# EAGLE library part REF193GSZ (library Hexabitz)
Voltage Reference Precision 3 Volt 30 mA 8-Pin SOIC N
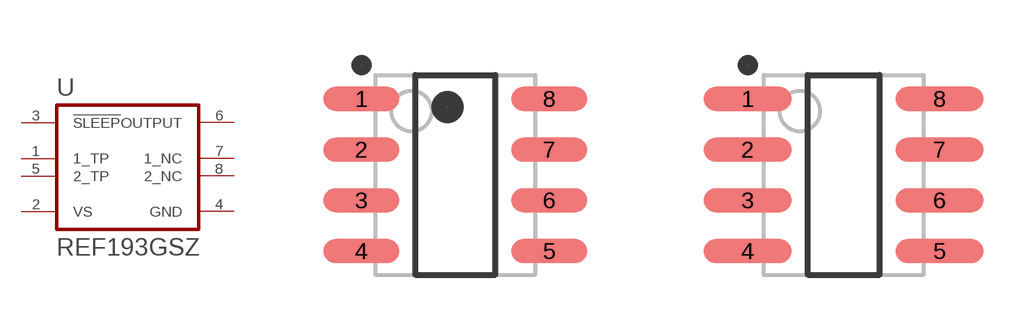
[diagram p29: symbol with the pads of REF193GSZ_0; footprints REF193GSZ_0, REF193GSZ_1]

Designator prefix U

## REF193GSZANALOG_DEVICES_REF193GSZ_0_0 (CIIVA_IDS: 1469357; CODE__JEDEC: MS-012-AA; COMPONENT_LINK_1_DESCRIPTION: Manufacturer URL; COMPONENT_LINK_1_URL: http://www.analog.com/en/index.html; COMPONENT_LINK_3_DESCRIPTION: Package Specification; COMPONENT_LINK_3_URL: http://www.analog.com/static/imported-files/packages/PKG_PDF/SOIC_Narrow%20(R)/R_8.pdf; COMPONENT_LINK_4_DESCRIPTION: URL Link1; COMPONENT_LINK_4_URL: Product URL:http://www.analog.com/en/special-linear-functions/voltage-references/ref193/products/product.html; DATASHEET: http://www.analog.com/static/imported-files/data_sheets/REF19xSeries.pdf; DATASHEET_VERSION: Rev. L; FOOTPRINT_VARIANT_NAME_0: Level C; FOOTPRINT_VARIANT_NAME_1: Level B; FOOTPRINT_VARIANT_NAME_2: Level A; IMPORTED: yes; IMPORTED_FROM: vault; IMPORT_TS: 1521842982; MF: Analog Devices; MOUNTING_TECHNOLOGY: Surface Mount; MPN: REF193GSZ; OPERATING_TEMP_RANGE: -40 to 85 degC; PACKAGE: R-8; PACKAGE_DESCRIPTION: 8-Pin Standard Small Outline Package, Body 4.9 x 3.9 mm, Pitch 1.27 mm; PACKAGE_VERSION: 060506-A, 06/2006; PACKING: Tube; PREFIX: U; REF_OUT_TC_PPMC: 10; RELEASE_DATE: 1391075971; VAULT_GUID: FC942A52-93FB-4AF8-8F74-609386AD564E; VAULT_REVISION: 2DC20313-3ADB-4367-AA8D-75F47160B3A1; VOUT: 3V)  [REF193GSZ_0]
1  1_TP  pas
2  VS  pwr
3  !SLEEP!  in
4  GND  pwr
5  2_TP  pas
6  OUTPUT  hiz
7  1_NC  pas
8  2_NC  pas

## REF193GSZANALOG_DEVICES_REF193GSZ_0_1 (CIIVA_IDS: 1469357; CODE__JEDEC: MS-012-AA; COMPONENT_LINK_1_DESCRIPTION: Manufacturer URL; COMPONENT_LINK_1_URL: http://www.analog.com/en/index.html; COMPONENT_LINK_3_DESCRIPTION: Package Specification; COMPONENT_LINK_3_URL: http://www.analog.com/static/imported-files/packages/PKG_PDF/SOIC_Narrow%20(R)/R_8.pdf; COMPONENT_LINK_4_DESCRIPTION: URL Link1; COMPONENT_LINK_4_URL: Product URL:http://www.analog.com/en/special-linear-functions/voltage-references/ref193/products/product.html; DATASHEET: http://www.analog.com/static/imported-files/data_sheets/REF19xSeries.pdf; DATASHEET_VERSION: Rev. L; FOOTPRINT_VARIANT_NAME_0: Level C; FOOTPRINT_VARIANT_NAME_1: Level B; FOOTPRINT_VARIANT_NAME_2: Level A; IMPORTED: yes; IMPORTED_FROM: vault; IMPORT_TS: 1521842982; MF: Analog Devices; MFN: Analog Devices; MOUNTING_TECHNOLOGY: Surface Mount; MPN: REF193GSZ; OCTOPART_URL: https://octopart.com/ref193gsz-analog+devices-524457#; OPERATING_TEMP_RANGE: -40 to 85 degC; PACKAGE: R-8; PACKAGE_DESCRIPTION: 8-Pin Standard Small Outline Package, Body 4.9 x 3.9 mm, Pitch 1.27 mm; PACKAGE_VERSION: 060506-A, 06/2006; PACKING: Tube; PREFIX: U; REF_OUT_TC_PPMC: 10; RELEASE_DATE: 1391075971; VALUE: REF193GSZ; VAULT_GUID: FC942A52-93FB-4AF8-8F74-609386AD564E; VAULT_REVISION: 2DC20313-3ADB-4367-AA8D-75F47160B3A1; VOUT: 3V)  [REF193GSZ_1]
Pads as for REF193GSZ_0

## REF193GSZANALOG_DEVICES_REF193GSZ_0_2 (CIIVA_IDS: 1469357; CODE__JEDEC: MS-012-AA; COMPONENT_LINK_1_DESCRIPTION: Manufacturer URL; COMPONENT_LINK_1_URL: http://www.analog.com/en/index.html; COMPONENT_LINK_3_DESCRIPTION: Package Specification; COMPONENT_LINK_3_URL: http://www.analog.com/static/imported-files/packages/PKG_PDF/SOIC_Narrow%20(R)/R_8.pdf; COMPONENT_LINK_4_DESCRIPTION: URL Link1; COMPONENT_LINK_4_URL: Product URL:http://www.analog.com/en/special-linear-functions/voltage-references/ref193/products/product.html; DATASHEET: http://www.analog.com/static/imported-files/data_sheets/REF19xSeries.pdf; DATASHEET_VERSION: Rev. L; FOOTPRINT_VARIANT_NAME_0: Level C; FOOTPRINT_VARIANT_NAME_1: Level B; FOOTPRINT_VARIANT_NAME_2: Level A; IMPORTED: yes; IMPORTED_FROM: vault; IMPORT_TS: 1521842982; MF: Analog Devices; MOUNTING_TECHNOLOGY: Surface Mount; MPN: REF193GSZ; OPERATING_TEMP_RANGE: -40 to 85 degC; PACKAGE: R-8; PACKAGE_DESCRIPTION: 8-Pin Standard Small Outline Package, Body 4.9 x 3.9 mm, Pitch 1.27 mm; PACKAGE_VERSION: 060506-A, 06/2006; PACKING: Tube; PREFIX: U; REF_OUT_TC_PPMC: 10; RELEASE_DATE: 1391075971; VAULT_GUID: FC942A52-93FB-4AF8-8F74-609386AD564E; VAULT_REVISION: 2DC20313-3ADB-4367-AA8D-75F47160B3A1; VOUT: 3V)  [REF193GSZ_2]
Pads as for REF193GSZ_0

## Footprint REF193GSZ_0 (pad centres in mm)
ADI-REF19X-8
smd 1.9 x 0.6: 1 -2.35,1.905; 2 -2.35,0.635; 3 -2.35,-0.635; 4 -2.35,-1.905; 5 2.35,-1.905; 6 2.35,-0.635; 7 2.35,0.635; 8 2.35,1.905

## Footprint REF193GSZ_1 (pad centres in mm)
ADI-REF19X-8
smd 2.2 x 0.6: 1 -2.4,1.905; 2 -2.4,0.635; 3 -2.4,-0.635; 4 -2.4,-1.905; 5 2.4,-1.905; 6 2.4,-0.635; 7 2.4,0.635; 8 2.4,1.905

## Footprint REF193GSZ_2 (pad centres in mm)
ADI-REF19X-8
smd 2.5 x 0.7: 1 -2.45,1.905; 2 -2.45,0.635; 3 -2.45,-0.635; 4 -2.45,-1.905; 5 2.45,-1.905; 6 2.45,-0.635; 7 2.45,0.635; 8 2.45,1.905